# EAGLE library part TIVA-C_EVAL (library texas)
Texas Instruments Tiva-C TM4C123G LaunchPad Evaluation Board Part number EK-TM4C123GXL Datasheet <http://www.ti.com/lit/ug/spmu296/spmu296.pdf> Microcontroller <http://www.ti.com/lit/ds/spms376e/spms376e.pdf>
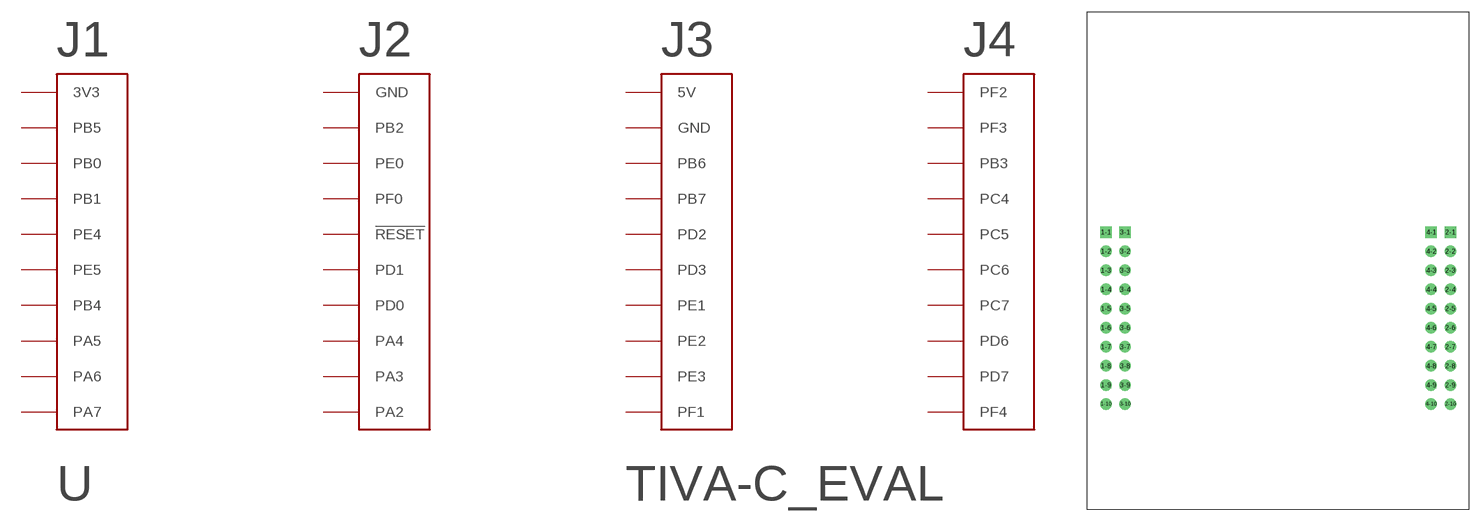
[diagram p131: symbol with the pads of TIVA-C_EVAL; footprint TIVA-C_EVAL]

Designator prefix -

## TIVA-C_EVAL  [TIVA-C_EVAL]
1-1  3V3
1-2  PB5
1-3  PB0
1-4  PB1
1-5  PE4
1-6  PE5
1-7  PB4
1-8  PA5
1-9  PA6
1-10  PA7
2-1  GND
2-2  PB2
2-3  PE0
2-4  PF0
2-5  !RESET!
2-6  PD1
2-7  PD0
2-8  PA4
2-9  PA3
2-10  PA2
3-1  5V
3-2  GND
3-3  PB6
3-4  PB7
3-5  PD2
3-6  PD3
3-7  PE1
3-8  PE2
3-9  PE3
3-10  PF1
4-1  PF2
4-2  PF3
4-3  PB3
4-4  PC4
4-5  PC5
4-6  PC6
4-7  PC7
4-8  PD6
4-9  PD7
4-10  PF4

## Footprint TIVA-C_EVAL (pad centres in mm)
drill 1.016 square: 1-1 -22.86,3.81; 2-1 22.86,3.81; 3-1 -20.32,3.81; 4-1 20.32,3.81
drill 1.016: 1-2 -22.86,1.27; 1-3 -22.86,-1.27; 1-4 -22.86,-3.81; 1-5 -22.86,-6.35; 1-6 -22.86,-8.89; 1-7 -22.86,-11.43; 1-8 -22.86,-13.97; 1-9 -22.86,-16.51; 1-10 -22.86,-19.05; 2-2 22.86,1.27; 2-3 22.86,-1.27; 2-4 22.86,-3.81; 2-5 22.86,-6.35; 2-6 22.86,-8.89; 2-7 22.86,-11.43; 2-8 22.86,-13.97; 2-9 22.86,-16.51; 2-10 22.86,-19.05; 3-2 -20.32,1.27; 3-3 -20.32,-1.27; 3-4 -20.32,-3.81; 3-5 -20.32,-6.35; 3-6 -20.32,-8.89; 3-7 -20.32,-11.43; 3-8 -20.32,-13.97; 3-9 -20.32,-16.51; 3-10 -20.32,-19.05; 4-2 20.32,1.27; 4-3 20.32,-1.27; 4-4 20.32,-3.81; 4-5 20.32,-6.35; 4-6 20.32,-8.89; 4-7 20.32,-11.43; 4-8 20.32,-13.97; 4-9 20.32,-16.51; 4-10 20.32,-19.05